# EAGLE library part M-064320 (library con-WuP)
26 pol. male SMC CONNECTOR vertical , type Q, low profile Source: http://www.erni.com/DB/PDF-Drawing/SMC/064320.pdf
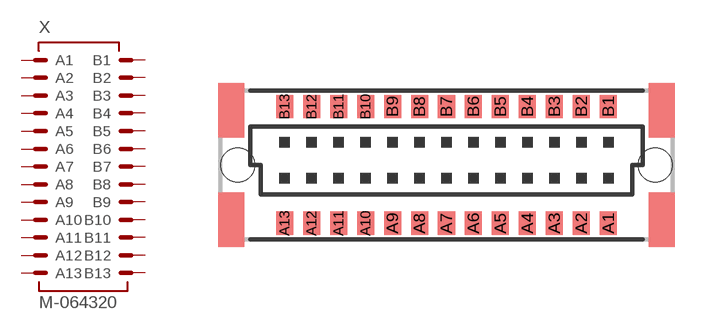
[diagram p1: symbol with the pads of M-064320; footprint M-064320]

Designator prefix X

## M-064320 (OC_FARNELL: unknown; OC_NEWARK: unknown)  [M-064320]
A1  A1  pas
A2  A2  pas
A3  A3  pas
A4  A4  pas
A5  A5  pas
A6  A6  pas
A7  A7  pas
A8  A8  pas
A9  A9  pas
A10  A10  pas
A11  A11  pas
A12  A12  pas
A13  A13  pas
B1  B1  pas
B2  B2  pas
B3  B3  pas
B4  B4  pas
B5  B5  pas
B6  B6  pas
B7  B7  pas
B8  B8  pas
B9  B9  pas
B10  B10  pas
B11  B11  pas
B12  B12  pas
B13  B13  pas

## Footprint M-064320 (pad centres in mm)
26 pol. male SMC CONNECTOR vertical , type Q, low profile Source: http://www.erni.com/DB/PDF-Drawing/SMC/064320.pdf
smd 0.8 x 1.1: A1 7.62,-2.75; A2 6.35,-2.75; A3 5.08,-2.75; A4 3.81,-2.75; A5 2.54,-2.75; A6 1.27,-2.75; A7 0,-2.75; A8 -1.27,-2.75; A9 -2.54,-2.75; A10 -3.81,-2.75; A11 -5.08,-2.75; A12 -6.35,-2.75; A13 -7.62,-2.75; B1 7.62,2.75; B2 6.35,2.75; B3 5.08,2.75; B4 3.81,2.75; B5 2.54,2.75; B6 1.27,2.75; B7 0,2.75; B8 -1.27,2.75; B9 -2.54,2.75; B10 -3.81,2.75; B11 -5.08,2.75; B12 -6.35,2.75; B13 -7.62,2.75
hole 1.6 at 9.83,0
hole 1.6 at -9.83,0